# EAGLE library part MAX3098EAEEE (library Line_Drivers)
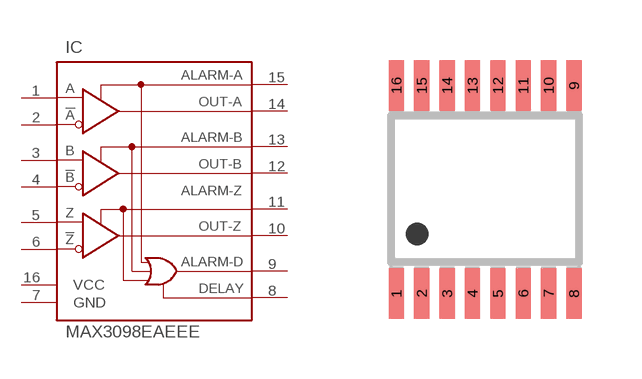
[diagram p0: symbol with the pads of QSOP-16; footprint QSOP-16]

Designator prefix IC

## MAX3098EAEEE  [QSOP-16]
1  A  in
2  !A  in
3  B  in
4  !B  in
5  Z  in
6  !Z  in
7  GND  sup
8  DELAY
9  ALARM-D  out
10  OUT-Z  out
11  ALARM-Z  out
12  OUT-B  out
13  ALARM-B  out
14  OUT-A  out
15  ALARM-A  out
16  VCC  sup

## Footprint QSOP-16 (pad centres in mm)
smd 0.381 x 1.27: 1 -2.223,-2.6; 2 -1.587,-2.6; 3 -0.953,-2.6; 4 -0.318,-2.6; 5 0.318,-2.6; 6 0.953,-2.6; 7 1.587,-2.6; 8 2.223,-2.6; 9 2.223,2.6; 10 1.587,2.6; 11 0.953,2.6; 12 0.318,2.6; 13 -0.318,2.6; 14 -0.953,2.6; 15 -1.587,2.6; 16 -2.223,2.6